# EAGLE library part SPST_DIP_4 (library connectors)
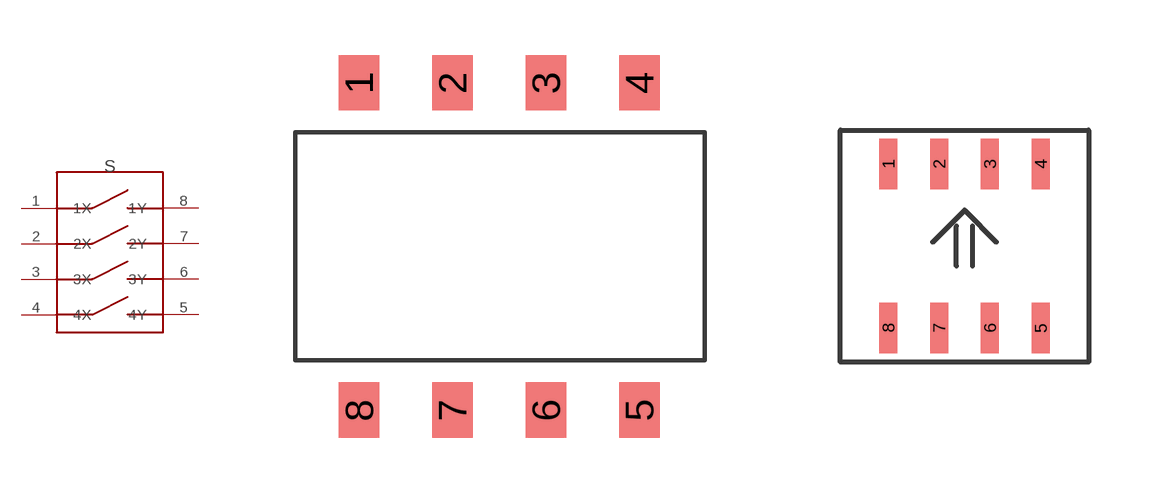
[diagram p9: symbol with the pads of SPST_DIP4_SMT; footprints SPST_DIP4_SMT, SPST_DPI4_SMT_SMALL]

Designator prefix S

## SPST_DIP_4  [SPST_DIP4_SMT]
1  1X
2  2X
3  3X
4  4X
5  4Y
6  3Y
7  2Y
8  1Y

## SPST_DIP_4SMALL  [SPST_DPI4_SMT_SMALL]
Pads as for SPST_DIP4_SMT

## Footprint SPST_DIP4_SMT (pad centres in mm)
smd 1.1 x 1.5: 1 -3.83,4.45; 2 -1.29,4.45; 3 1.25,4.45; 4 3.79,4.45; 5 3.79,-4.45; 6 1.25,-4.45; 7 -1.29,-4.45; 8 -3.83,-4.45

## Footprint SPST_DPI4_SMT_SMALL (pad centres in mm)
218-4LPSTJRF
smd 0.45 x 1.27: 1 -1.905,2.05; 2 -0.635,2.05; 3 0.635,2.05; 4 1.905,2.05; 5 1.905,-2.05; 6 0.635,-2.05; 7 -0.635,-2.05; 8 -1.905,-2.05